# Altium schematic symbol library LibreriaTriacs.SCHLIB: 1 symbol
Pins are listed as number, name and electrical type; pins without a type are passive.

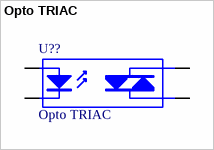
[diagram p0: symbol Opto TRIAC]

## Opto TRIAC
designator U??
Opto-Triac; Published: 24-Mar-1999; LatestRevisionDate: 17-Jul-2002; LatestRevisionNote: Re-released for DXP Platform.; PackageReference: NPSIP4A; Publisher: Altium Limited
footprint DIP-6 (Footprint not found)
pins: 1 A, 2 K, 4 A/K, 6 A/K